# EAGLE library part LTC6820 (library BMS_Slave_v2)
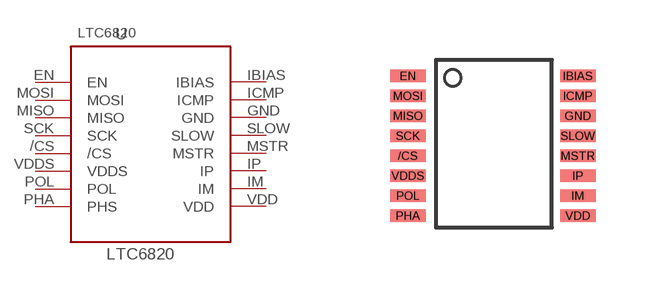
[diagram p0: symbol with the pads of LTC6820; footprint LTC6820]

Designator prefix -

## LTC6820  [LTC6820]
/CS  /CS
EN  EN
GND  GND
IBIAS  IBIAS
ICMP  ICMP
IM  IM
IP  IP
MISO  MISO
MOSI  MOSI
MSTR  MSTR
PHA  PHS
POL  POL
SCK  SCK
SLOW  SLOW
VDD  VDD
VDDS  VDDS

## Footprint LTC6820 (pad centres in mm)
smd 0.889 x 0.305: /CS -2,-0.5; EN -2,1.5; GND 2.25,0.5; IBIAS 2.25,1.5; ICMP 2.25,1; IM 2.25,-1.5; IP 2.25,-1; MISO -2,0.5; MOSI -2,1; MSTR 2.25,-0.5; PHA -2,-2; POL -2,-1.5; SCK -2,0; SLOW 2.25,0; VDD 2.25,-2; VDDS -2,-1